# Altium schematic symbol library 5502-15SA-01-F1.SchLib: 1 symbol
Pins are listed as number, name and electrical type; pins without a type are passive.

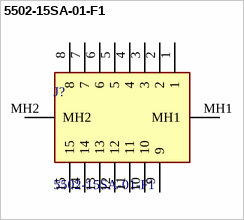
[diagram p0: symbol 5502-15SA-01-F1]

## 5502-15SA-01-F1
designator J?
D Sub Connector, Standard, Receptacle, 5502, 15 Contacts, DA, Solder; Manufacturer_Name: Multicomp Pro; Geometry.Height: 11.05mm; Manufacturer_Part_Number: 5502-15SA-01-F1; Mouser Part Number: *; Mouser Price/Stock: *; Arrow Part Number: *; Arrow Price/Stock: *; Datasheet Link: https://4donline.ihs.com/images/VipMasterIC/IC/SCMP/SCMP-S-A0011490128/SCMP-S-A0011490128-1.pdf?hkey=6D3A4C79FDBF58556ACFDE234799DDF0
footprint 550215SA01F1
pins: 1, 2, 3, 4, 5, 6, 7, 8, 9, 10, 11, 12, 13, 14, 15, MH1, MH2